# Altium footprint library POWER_2.PcbLib: 5 footprints
Each footprint in its own frame and in the unit in brackets; x right, y up, seen from the top. Pads: shape width x height; smd on the part's side, far side on the other; paste and mask are expansions set on the pad; w line width, h text height; cw(c..) or ccw(c..) is an arc to the next point about the centre after c.
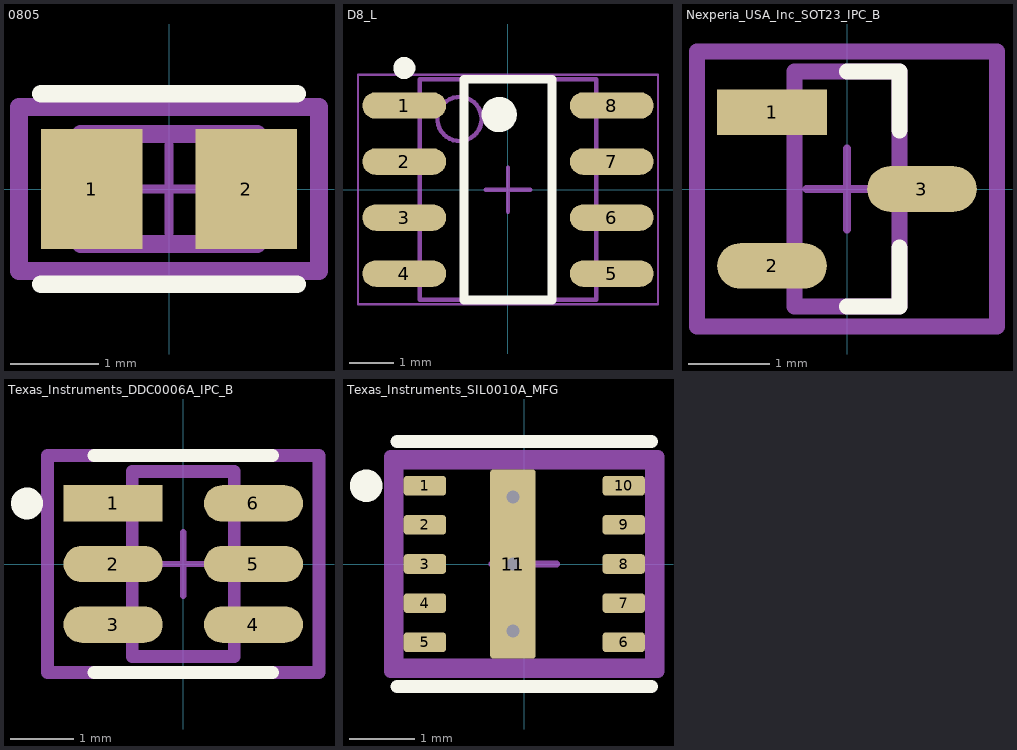
[diagram p0: the footprints below, top view; thin cyan lines are the x and y axes]

## 0805 [mm]
pads (2):
  rect 1.155x1.362 smd paste+0 mask+0: 1(-0.876,0) 2(0.876,0)
Top Overlay:
  lines w0.2: -1.453,-1.081 1.453,-1.081 ; -1.453,1.081 1.453,1.081
Mechanical 10:
  lines w0.2: -1.703,-0.931 -1.703,0.931 1.703,0.931 1.703,-0.931 -1.703,-0.931
Mechanical 12:
  lines w0.2: -1,-0.625 -1,0.625 1,0.625 1,-0.625 -1,-0.625
Mechanical 15:
  lines w0.1: -0.5,0 0.5,0 ; 0,-0.5 0,0.5
  lines w0.2: -1.703,-0.931 -1.703,0.931 1.703,0.931 1.703,-0.931 -1.703,-0.931
3D body "Res_Stackpole_Electronics_RMCF0805JG10K0_eec.STEP": height 0.25, standoff 0, extent -1.703,-0.931 1.703,0.931

## D8_L [mm] "SOIC, 8-Leads, Body 4.9x3.9mm, Pitch 1.27mm, IPC High Density"
height 1.75
pads (8):
  oval 1.9x0.6 smd: 1(-2.35,1.905) 2(-2.35,0.635) 3(-2.35,-0.635) 4(-2.35,-1.905) 5(2.35,-1.905) 6(2.35,-0.635) 7(2.35,0.635) 8(2.35,1.905)
Top Overlay:
  circle w0.4: c-0.2,1.7 r0.2
  circle w0.25: c-2.35,2.755 r0.125
  lines w0.2: -1,-2.5 1,-2.5 1,2.5 -1,2.5 -1,-2.5
Mechanical 13:
  circle w0.1: c-1.1,1.6 r0.5
  lines w0.1: -2,-2.5 2,-2.5 2,2.5 -2,2.5 -2,-2.5
Mechanical 15:
  lines w0.05: -3.4,-2.6 3.4,-2.6 3.4,2.6 -3.4,2.6 -3.4,-2.6
  lines w0.1: -0.5,0 0.5,0 ; 0,-0.5 0,0.5
3D body: height 1.75, standoff 0.1, extent -2,-2.5 2,2.5

## Nexperia_USA_Inc_SOT23_IPC_B [mm]
pads (3):
  rect 1.355x0.562 smd paste+0 mask+0: 1(-0.925,0.95)
  rrect100% 1.355x0.562 smd paste+0 mask+0: 2(-0.925,-0.95) 3(0.925,0)
Top Overlay:
  lines w0.2: 0,-1.45 0.65,-1.45 0.65,-0.725 ; 0,1.45 0.65,1.45 0.65,0.725
Mechanical 10:
  lines w0.2: -1.853,-1.7 1.853,-1.7 1.853,1.7 -1.853,1.7 -1.853,-1.7
  text ".Designator" at 0,0 h1
Mechanical 12:
  lines w0.2: -0.65,-1.45 0.65,-1.45 0.65,1.45 -0.65,1.45 -0.65,-1.45
Mechanical 15:
  lines w0.1: -0.5,0 0.5,0 ; 0,-0.5 0,0.5
  lines w0.2: -1.853,-1.7 1.853,-1.7 1.853,1.7 -1.853,1.7 -1.853,-1.7
3D body "Trans_Nexperia_USA_Inc_2N7002NXAKR_eec.STEP": height 0.25, standoff 0, extent -1.853,-1.7 1.853,1.7

## Texas_Instruments_DDC0006A_IPC_B [mm]
pads (6):
  rect 1.554x0.572 smd paste+0 mask+0: 1(-1.1,0.95)
  rrect100% 1.554x0.572 smd paste+0 mask+0: 2(-1.1,0) 3(-1.1,-0.95) 4(1.1,-0.95) 5(1.1,0) 6(1.1,0.95)
Top Overlay:
  circle w0.25: c-2.45,0.95 r0.125
  lines w0.2: -1.4,-1.7 1.4,-1.7 ; -1.4,1.7 1.4,1.7
Mechanical 10:
  lines w0.2: -2.127,-1.7 -2.127,1.7 2.127,1.7 2.127,-1.7 -2.127,-1.7
Mechanical 12:
  lines w0.2: -0.8,-1.45 -0.8,1.45 0.8,1.45 0.8,-1.45 -0.8,-1.45
Mechanical 15:
  lines w0.1: -0.5,0 0.5,0 ; 0,-0.5 0,0.5
  lines w0.2: -2.127,-1.7 -2.127,1.7 2.127,1.7 2.127,-1.7 -2.127,-1.7
3D body "IC_Texas_Instruments_TPS3702CX33DDCT_eec.STEP": height 0.25, standoff 0, extent -2.127,-1.7 2.127,1.7

## Texas_Instruments_SIL0010A_MFG [mm]
pads (11):
  rrect33% 0.65x0.3 smd paste+0 mask+0: 1(-1.525,1.2) 2(-1.525,0.6) 3(-1.525,0) 4(-1.525,-0.6) 5(-1.525,-1.2) 6(1.525,-1.2) 7(1.525,-0.6) 8(1.525,0) 9(1.525,0.6) 10(1.525,1.2)
  rrect14% 0.7x2.9 smd paste-1000 mask+0: 11(-0.175,0)
via -0.175,1.03 diameter 0.5 hole 0.2
via -0.175,0 diameter 0.5 hole 0.2
via -0.175,-1.03 diameter 0.5 hole 0.2
Top Overlay:
  circle w0.25: c-2.425,1.2 r0.125
  lines w0.2: -1.95,-1.875 1.95,-1.875 ; -1.95,1.875 1.95,1.875
Top Paste:
  region: 0.175,1.396 0.175,0.663 0.175,0.654 0.167,0.635 0.153,0.621 0.135,0.613 0.125,0.613 -0.475,0.613 -0.485,0.613 -0.503,0.621 -0.517,0.635 -0.525,0.654 -0.525,0.663 -0.525,1.396 -0.525,1.406 -0.517,1.425 -0.503,1.439 -0.485,1.446 -0.475,1.446 0.125,1.446 0.135,1.446 0.153,1.439 0.167,1.425 0.175,1.406
  region: 0.175,-0.663 0.175,-1.396 0.175,-1.406 0.167,-1.425 0.153,-1.439 0.135,-1.446 0.125,-1.446 -0.475,-1.446 -0.485,-1.446 -0.503,-1.439 -0.517,-1.425 -0.525,-1.406 -0.525,-1.396 -0.525,-0.663 -0.525,-0.654 -0.517,-0.635 -0.503,-0.621 -0.485,-0.613 -0.475,-0.613 0.125,-0.613 0.135,-0.613 0.153,-0.621 0.167,-0.635 0.175,-0.654
  region: -0.475,-0.416 -0.485,-0.416 -0.503,-0.409 -0.517,-0.395 -0.525,-0.376 -0.525,-0.366 -0.525,0.366 -0.525,0.376 -0.517,0.395 -0.503,0.409 -0.485,0.416 -0.475,0.416 0.125,0.416 0.135,0.416 0.153,0.409 0.167,0.395 0.175,0.376 0.175,0.366 0.175,-0.366 0.175,-0.376 0.167,-0.395 0.153,-0.409 0.135,-0.416 0.125,-0.416
Mechanical 10:
  lines w0.2: -2.05,-1.65 2.05,-1.65 2.05,1.65 -2.05,1.65 -2.05,-1.65
  text ".Designator" at 0,0 h1
Mechanical 12:
  lines w0.2: -1.95,-1.55 1.95,-1.55 1.95,1.55 -1.95,1.55 -1.95,-1.55
Mechanical 15:
  lines w0.1: -0.5,0 0.5,0 ; 0,-0.5 0,0.5
  lines w0.2: -2.05,-1.65 2.05,-1.65 2.05,1.65 -2.05,1.65 -2.05,-1.65
3D body "IC_Texas_Instruments_LMZM23601V3SILT_eec.STEP": height 0.25, standoff 0, extent -2.05,-1.65 2.05,1.65